# Altium integrated library Capacitors.IntLib: 4 symbols
Pins are listed as number, name and electrical type; pins without a type are passive.

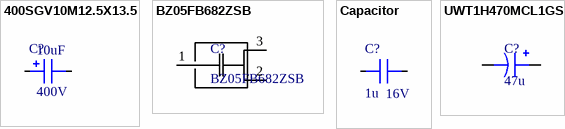
[diagram p0: symbols 400SGV10M12.5X13.5 to UWT1H470MCL1GS]

## 400SGV10M12.5X13.5
designator C?  value 10uF  Voltage: 400V
10 µF 400 V Aluminum Electrolytic Capacitors Radial, Can - SMD - 5000 Hrs @ 105°C; Percent Tolerance: 20%; Dielectric: *; ESR: *; ComponentLink1Description: Digikey; ComponentLink1URL: https://www.digikey.com/en/products/detail/rubycon/400SGV10M12-5X13-5/6185668
footprint ALCAP_13.00x13.00x14.00mm (Aluminum Electrolytic Capacitor, Body 13.00x13.00x14.00mm, IPC Low Density)
footprint 0402_CAP (Chip Capacitor, 2-Leads, Body 1.00x0.50mm, IPC Medium Density)
pins: 1, 2

## BZ05FB682ZSB
designator C?
6.8mF (EDLC) Supercapacitor 15V BZ05, 3 Lead 500mOhm 1000 Hrs @ 70°C; Voltage: 15; Value: 6800uF; Percent Tolerance: +80% / –20%; ComponentLink1Description: Digikey; ComponentLink1URL: https://www.digikey.com/en/products/detail/avx-corporation/BZ05FB682ZSB/2506249; ComponentLink2Description: Datasheet; ComponentLink2URL: http://catalogs.avx.com/BestCap.pdf; ESR: 500mOhm
footprint BZX5-S
pins: 1, 2, 3

## Capacitor
designator C?  value 1u  Voltage: 16V
Dielectric: *; Percent Tolerance: *; ESR: *
footprint 0603_CAP
footprint 0805_CAP (Chip Capacitor, Body 3.2x1.6mm, Height 1.9mm, IPC Low Density)
pins: 1, 2

## UWT1H470MCL1GS
designator C?  value 47u
Percent Tolerance: 20; Dielectric: *; ESR: *; ComponentLink1Description: Digikey; ComponentLink1URL: https://www.digikey.com/product-detail/en/nichicon/UWT1H470MCL1GS/493-2225-1-ND/590200
footprint 6.60x6.60x8.00mm_E_CAP (Aluminum Electrolytic Capacitor, Body 6.60x6.60x8.00mm, IPC Low Density)
pins: 1, 2